# Altium footprint library RM_addition.PcbLib: 124 footprints (part 2 of 8)
Each footprint in its own frame and in the unit in brackets; x right, y up, seen from the top. Pads: shape width x height; smd on the part's side, far side on the other; paste and mask are expansions set on the pad; w line width, h text height; cw(c..) or ccw(c..) is an arc to the next point about the centre after c.
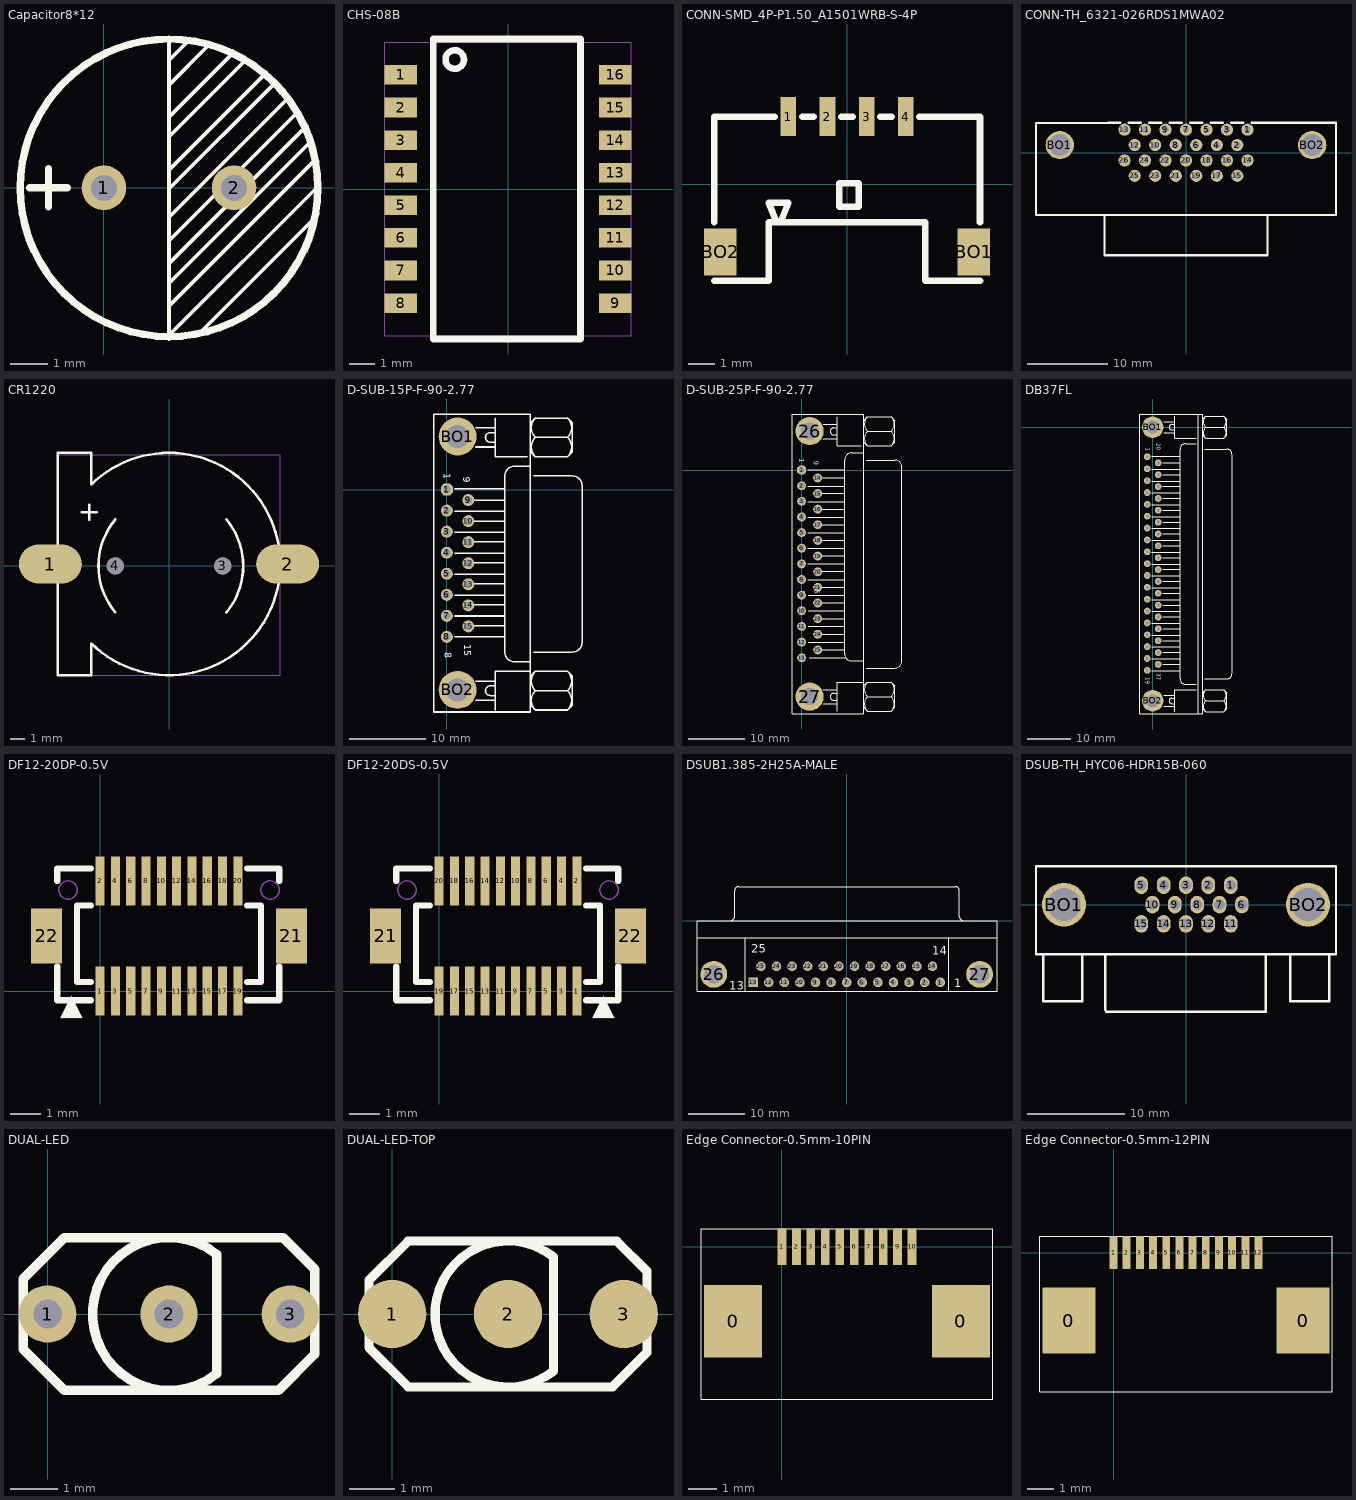
[diagram p1: the footprints below, top view; thin cyan lines are the x and y axes]

## Capacitor8*12 [mm]
pads (2):
  round 1.2 hole 0.7: 1(0,0) 2(3.5,0)
Top Overlay:
  circle w0.2: c1.75,0 r4
  lines w0.1: 1.75,-4.064 1.75,3.937 ; 1.75,-3.175 5.687,0.762 5.715,0.762 ; 1.75,-2.54 1.778,-2.54 5.588,1.27 ; 1.75,-2.032 5.433,1.651 5.461,1.651 ; 1.75,-1.397 1.778,-1.397 5.207,2.032 ; 1.75,-0.889 1.75,-0.79 4.953,2.413 4.925,2.413 ; 1.75,0 1.778,0 4.572,2.794 ; 1.75,0.508 1.778,0.508 4.318,3.048 ; 1.75,0.889 1.75,0.988 ; 1.75,1.397 1.778,1.397 3.81,3.429 ; 1.75,1.905 3.429,3.584 3.429,3.683 ; 1.75,2.794 1.778,2.794 2.794,3.81 ; 1.75,3.048 1.75,3.147 ; 1.75,3.429 2.258,3.937 2.286,3.937 ; 1.778,-3.937 5.733,0.018 ; 2.54,-3.937 5.687,-0.79
  lines w0.2: -1.997,0 -0.981,0 ; -1.489,-0.508 -1.489,0.508

## CHS-08B [mm]
pads (16):
  rect 1.27x0.762 smd mask+0.064: 1(-4.175,4.445) 2(-4.175,3.175) 3(-4.175,1.905) 4(-4.175,0.635) 5(-4.175,-0.635) 6(-4.175,-1.905) 7(-4.175,-3.175) 8(-4.175,-4.445) 9(4.175,-4.445) 10(4.175,-3.175) 11(4.175,-1.905) 12(4.175,-0.635) 13(4.175,0.635) 14(4.175,1.905) 15(4.175,3.175) 16(4.175,4.445)
Top Overlay:
  circle w0.254: c-2.075,5.045 r0.36
  lines w0.254: -2.905,-5.845 -2.905,5.845 2.825,5.845 2.825,-5.845 -2.905,-5.845
Mechanical 20:
  lines w0.025: -4.81,-5.715 -4.81,5.715 4.81,5.715 4.81,-5.715 -4.81,-5.715

## CONN-SMD_4P-P1.50_A1501WRB-S-4P [mm]
pads (6):
  rect 0.6x1.5 smd: 1(-2.249,2.595) 2(-0.749,2.595) 3(0.751,2.595) 4(2.251,2.595)
  rect 1.25x1.8 smd: BO1(4.855,-2.595) BO2(-4.855,-2.595)
Top Overlay:
  lines w0.254: -5.099,-3.704 -2.998,-3.704 -2.998,-1.453 3.001,-1.455 3.001,-1.453 3.001,-3.704 5.101,-3.705 ; -5.099,-1.455 -5.099,2.595 -2.78,2.595 ; -2.699,-1.455 -2.999,-0.705 -2.249,-0.705 -2.549,-1.455 ; -1.718,2.595 -1.28,2.595 ; -0.218,2.595 0.22,2.595 ; 1.282,2.595 1.72,2.595 ; 2.782,2.595 5.102,2.595 5.102,-1.453 ; -0.299,-0.855 -0.299,0.045 0.451,0.045 0.451,-0.855 -0.299,-0.855

## CONN-TH_6321-026RDS1MWA02 [mm]
pads (28):
  round 1.5 hole 0.8: 1(7.62,2.857) 2(6.35,0.953) 3(5.08,2.857) 4(3.81,0.953) 5(2.54,2.857) 6(1.27,0.953) 7(0,2.857) 8(-1.27,0.953) 9(-2.54,2.857) 10(-3.81,0.953) 11(-5.08,2.857) 12(-6.35,0.953) 13(-7.62,2.857) 14(7.62,-0.953) 15(6.35,-2.857) 16(5.08,-0.953) 17(3.81,-2.857) 18(2.54,-0.953) 19(1.27,-2.857) 20(0,-0.953) 21(-1.27,-2.857) 22(-2.54,-0.953) 23(-3.81,-2.857) 24(-5.08,-0.953) 25(-6.35,-2.857) 26(-7.62,-0.953)
  round 3.5 hole 2.7: BO1(-15.63,0.953) BO2(15.63,0.953)
Top Overlay:
  lines w0.254: -10.08,-7.687 -10.08,-12.7 10.08,-12.7 10.08,-7.687 ; -9.681,3.713 -8.099,3.713 ; -8.148,3.683 -18.58,3.683 -18.58,-7.687 18.58,-7.687 18.58,3.713 8.099,3.713 ; -7.141,3.713 -5.559,3.713 ; -7.092,3.683 -5.608,3.683 ; -4.601,3.713 -3.019,3.713 ; -2.061,3.713 -0.479,3.713 ; 0.479,3.713 2.061,3.713 ; 3.019,3.713 4.601,3.713 ; 5.559,3.713 7.141,3.713

## CR1220 [mil]
pads (4):
  oval 169.29x106.3 smd mask+1.97: 1(-320,5) 2(320,5)
  round 46 hole 46 unplated mask+2: 3(145,0) 4(-145,0)
Top Overlay:
  lines w7: -235,145 -195,145 ; -215,125 -215,165 ; -209.62,-209.61 -210,-295 -300,-295 -300,5 -300,305 -210,305 -209.62,219.61 ; -209.52,-209.7 ccw(c0,5) 298.19,-27.92 ; -209.52,219.71 cw(c0,5.01) 0,305 cw(c0,5) 298.19,37.92 ; -145.23,-124.72 cw(c5,0) -145.01,124.99 ; 155.01,-124.99 ccw(c5,0) 155.01,124.98
Mechanical 20:
  lines w1: -300,-295 300,-295 300,300 -300,300 -300,-295

## D-SUB-15P-F-90-2.77 [mm] "90度弯角"
pads (17):
  oct 1.575x1.575 hole 1: 1(0,0)
  round 1.575 hole 1: 2(0,-2.77) 3(0,-5.54) 4(0,-8.31) 5(0,-11.08) 6(0,-13.85) 7(0,-16.62) 8(0,-19.39) 9(2.84,-1.385) 10(2.84,-4.155) 11(2.84,-6.925) 12(2.84,-9.695) 13(2.84,-12.465) 14(2.84,-15.235) 15(2.84,-18.005)
  round 4.995 hole 3.006: BO1(1.42,6.965) BO2(1.42,-26.355)
Top Overlay:
  lines w0.203: 1.058,-19.389 7.408,-19.389 7.62,-19.389 ; 1.058,-16.637 7.408,-16.637 7.62,-16.637 ; 1.058,-13.885 7.408,-13.885 7.62,-13.885 ; 1.058,-11.134 7.408,-11.134 7.62,-11.134 ; 1.058,-8.382 7.408,-8.382 7.62,-8.382 ; 1.058,-5.63 7.408,-5.63 7.62,-5.63 ; 1.058,-2.879 7.408,-2.879 7.62,-2.879 ; 1.058,0.085 7.62,0.085 ; 3.598,-17.907 7.62,-17.907 ; 3.598,-15.155 7.62,-15.155 ; 3.598,-12.404 7.62,-12.404 ; 3.598,-9.652 7.62,-9.652 ; 3.598,-6.9 7.62,-6.9 ; 3.598,-4.149 7.62,-4.149 ; 3.598,-1.397 7.62,-1.397 ; 3.81,-27.732 6.35,-27.732 ; 3.81,-25.192 6.35,-25.192 ; 3.81,5.588 6.35,5.588 ; 3.81,8.128 6.35,8.128 ; 6.35,-29.002 6.35,-23.922 10.922,-23.922 ; 6.35,-27.097 5.715,-27.097 cw(c5.715,-26.462) 5.715,-25.827 6.35,-25.827 ; 6.35,6.223 5.715,6.223 cw(c5.715,6.858) 5.715,7.493 6.35,7.493 ; 6.35,9.398 6.35,4.318 10.541,4.318 ; 10.922,-22.652 8.89,-22.652 cw(c8.89,-21.382) 7.62,-21.382 7.62,1.778 cw(c8.89,1.778) 8.89,3.048 10.922,3.048 ; 11.007,-24.553 11.642,-23.918 15.875,-23.918 ; 11.007,4.957 11.642,4.322 15.875,4.322 16.51,4.957 16.51,8.767 15.875,9.402 11.642,9.402 11.007,8.767 ; 11.009,-28.361 11.644,-28.996 ; 11.43,-21.378 16.51,-21.378 ccw(c16.51,-20.108) 17.78,-20.108 17.78,0.512 ccw(c16.51,0.512) 16.51,1.782 11.43,1.782 ; 11.639,-26.461 cw(c12.912,-25.188) 11.639,-23.916 ; 11.639,4.319 cw(c12.912,5.592) 11.639,6.864 ; 11.639,6.859 cw(c12.912,8.132) 11.639,9.404 ; 11.642,-26.458 15.24,-26.458 ; 11.642,-26.454 ccw(c12.914,-27.726) 11.642,-28.998 15.875,-28.998 ; 11.642,6.862 15.24,6.862 15.875,6.862 ; 15.242,-26.456 15.877,-26.456 ; 15.877,-28.996 16.512,-28.361 16.512,-24.551 15.877,-23.916 cw(c14.605,-25.188) 15.877,-26.461 ; 15.877,4.319 ccw(c14.605,5.592) 15.877,6.864 ; 15.877,6.859 ccw(c14.605,8.132) 15.877,9.404 ; 15.879,-28.998 ccw(c14.607,-27.726) 15.879,-26.454 ; -1.693,-29.265 -1.693,9.875 10.94,9.875 10.94,-29.265 -1.693,-29.265
  text "8" at -0.254,-21.378 h0.91
  text "15" at 2.286,-20.362 h0.91
  text "9" at 2.159,1.651 h0.91
  text "1" at -0.381,2.117 h0.91

## D-SUB-25P-F-90-2.77 [mm] "90度弯角"
pads (27):
  oct 1.575x1.575 hole 1: 1(0,0)
  round 1.575 hole 1: 2(0,-2.77) 3(0,-5.54) 4(0,-8.31) 5(0,-11.08) 6(0,-13.85) 7(0,-16.62) 8(0,-19.39) 9(0,-22.16) 10(0,-24.93) 11(0,-27.7) 12(0,-30.47) 13(0,-33.24) 14(2.84,-1.385) 15(2.84,-4.155) 16(2.84,-6.925) 17(2.84,-9.695) 18(2.84,-12.465) 19(2.84,-15.235) 20(2.84,-18.005) 21(2.84,-20.775) 22(2.84,-23.545) 23(2.84,-26.315) 24(2.84,-29.085) 25(2.84,-31.855)
  round 4.995 hole 3.006: 26(1.42,6.9) 27(1.42,-40.14)
Top Overlay:
  lines w0.203: 1.058,-19.389 7.408,-19.389 7.62,-19.389 ; 1.058,-16.637 7.408,-16.637 7.62,-16.637 ; 1.058,-13.885 7.408,-13.885 7.62,-13.885 ; 1.058,-11.134 7.408,-11.134 7.62,-11.134 ; 1.058,-8.382 7.408,-8.382 7.62,-8.382 ; 1.058,-5.63 7.408,-5.63 7.62,-5.63 ; 1.058,-2.879 7.408,-2.879 7.62,-2.879 ; 1.058,0.085 7.62,0.085 ; 1.164,-30.47 7.514,-30.47 ; 1.164,-27.7 7.514,-27.7 ; 1.164,-24.93 7.514,-24.93 ; 1.164,-22.16 7.514,-22.16 ; 1.394,-33.24 7.744,-33.24 ; 3.598,-31.855 7.62,-31.855 ; 3.598,-29.085 7.62,-29.085 ; 3.598,-26.315 7.62,-26.315 ; 3.598,-23.545 7.62,-23.545 ; 3.598,-20.775 7.62,-20.775 ; 3.598,-17.907 7.62,-17.907 ; 3.598,-15.155 7.62,-15.155 ; 3.598,-12.404 7.62,-12.404 ; 3.598,-9.652 7.62,-9.652 ; 3.598,-6.9 7.62,-6.9 ; 3.598,-4.149 7.62,-4.149 ; 3.598,-1.397 7.62,-1.397 ; 3.81,-41.416 6.35,-41.416 ; 3.81,-38.876 6.35,-38.876 ; 3.81,5.588 6.35,5.588 ; 3.81,8.128 6.35,8.128 ; 6.35,-42.686 6.35,-37.606 10.922,-37.606 ; 6.35,-40.781 5.715,-40.781 cw(c5.715,-40.146) 5.715,-39.511 6.35,-39.511 ; 6.35,6.223 5.715,6.223 cw(c5.715,6.858) 5.715,7.493 6.35,7.493 ; 6.35,9.398 6.35,4.318 10.541,4.318 ; 7.62,-32.5 7.62,1.778 cw(c8.89,1.778) 8.89,3.048 10.922,3.048 ; 7.633,-32.53 ccw(c8.903,-32.53) 8.903,-33.8 10.935,-33.8 ; 11.007,-38.237 11.642,-37.602 15.875,-37.602 ; 11.007,4.957 11.642,4.322 15.875,4.322 16.51,4.957 16.51,8.767 15.875,9.402 11.642,9.402 11.007,8.767 ; 11.009,-42.045 11.644,-42.68 ; 11.43,-35.067 16.51,-35.067 ccw(c16.51,-33.797) 17.78,-33.797 ; 11.43,1.782 16.51,1.782 cw(c16.51,0.512) 17.78,0.512 17.78,-33.8 ; 11.639,-40.144 cw(c12.912,-38.872) 11.639,-37.6 ; 11.639,4.319 cw(c12.912,5.592) 11.639,6.864 ; 11.639,6.859 cw(c12.912,8.132) 11.639,9.404 ; 11.642,-40.142 15.24,-40.142 ; 11.642,-40.138 ccw(c12.914,-41.41) 11.642,-42.682 15.875,-42.682 ; 11.642,6.862 15.24,6.862 15.875,6.862 ; 15.242,-40.14 15.877,-40.14 ; 15.877,-42.68 16.512,-42.045 16.512,-38.235 15.877,-37.6 cw(c14.605,-38.872) 15.877,-40.144 ; 15.877,4.319 ccw(c14.605,5.592) 15.877,6.864 ; 15.877,6.859 ccw(c14.605,8.132) 15.877,9.404 ; 15.879,-42.682 ccw(c14.607,-41.41) 15.879,-40.138 ; -1.7,-43.14 10.933,-43.14 10.933,9.9 -1.7,9.9 -1.7,-43.14
  text "1" at -0.381,2.117 h0.91
  text "9" at 2.159,1.651 h0.91
  text "15" at 2.286,-20.362 h0.91
  text "8" at -0.254,-21.378 h0.91

## DB37FL [mil] "90度弯角"
pads (39):
  oct 62x62 hole 35: 1(-50,-270)
  round 62 hole 35: 2(-50,-380) 3(-50,-488.33) 4(-50,-596.67) 5(-50,-705) 6(-50,-813.33) 7(-50,-921.67) 8(-50,-1030) 9(-50,-1138.33) 10(-50,-1246.67) 11(-50,-1355) 12(-50,-1463.33) 13(-50,-1571.67) 14(-50,-1680) 15(-50,-1788.33) 16(-50,-1896.67) 17(-50,-2005) 18(-50,-2113.33) 19(-50,-2221.67) 20(50,-325.83) 21(50,-434.17) 22(50,-542.5) 23(50,-650.83) 24(50,-759.17) 25(50,-867.5) 26(50,-975.83) 27(50,-1084.17) 28(50,-1192.5) 29(50,-1300.83) 30(50,-1409.17) 31(50,-1517.5) 32(50,-1625.83) 33(50,-1734.17) 34(50,-1842.5) 35(50,-1950.83) 36(50,-2059.17) 37(50,-2167.5)
  round 196.67 hole 118.33: BO1(0,0) BO2(0,-2500)
Top Overlay:
  lines w8: -8.33,-2225 241.67,-2225 250,-2225 ; -8.33,-2116.67 241.67,-2116.67 250,-2116.67 ; -8.33,-2008.33 241.67,-2008.33 250,-2008.33 ; -8.33,-1900 241.67,-1900 250,-1900 ; -8.33,-1791.67 241.67,-1791.67 250,-1791.67 ; -8.33,-1683.33 241.67,-1683.33 250,-1683.33 ; -8.33,-1575 241.67,-1575 250,-1575 ; -8.33,-1466.67 241.67,-1466.67 250,-1466.67 ; -8.33,-1358.33 250,-1358.33 ; -8.33,-1250 250,-1250 ; -8.33,-1141.67 241.67,-1141.67 250,-1141.67 ; -8.33,-1033.33 241.67,-1033.33 250,-1033.33 ; -8.33,-925 241.67,-925 250,-925 ; -8.33,-816.67 241.67,-816.67 250,-816.67 ; -8.33,-708.33 241.67,-708.33 250,-708.33 ; -8.33,-600 241.67,-600 250,-600 ; -8.33,-491.67 241.67,-491.67 250,-491.67 ; -8.33,-383.33 241.67,-383.33 250,-383.33 ; -8.33,-266.67 250,-266.67 ; 91.67,-2166.67 250,-2166.67 ; 91.67,-2058.33 250,-2058.33 ; 91.67,-1950 250,-1950 ; 91.67,-1841.67 250,-1841.67 ; 91.67,-1733.33 250,-1733.33 ; 91.67,-1625 250,-1625 ; 91.67,-1516.67 250,-1516.67 ; 91.67,-1408.33 250,-1408.33 ; 91.67,-1300 250,-1300 ; 91.67,-1191.67 250,-1191.67 ; 91.67,-1083.33 250,-1083.33 ; 91.67,-975 250,-975 ; 91.67,-866.67 250,-866.67 ; 91.67,-758.33 250,-758.33 ; 91.67,-650 250,-650 ; 91.67,-541.67 250,-541.67 ; 91.67,-433.33 250,-433.33 ; 91.67,-325 250,-325 ; 100,-2550 200,-2550 ; 100,-2450 200,-2450 ; 100,-50 200,-50 ; 100,50 200,50 ; 200,-2600 200,-2400 400,-2400 ; 200,-2525 175,-2525 cw(c175,-2500) 175,-2475 200,-2475 ; 200,-25 175,-25 cw(c175,0) 175,25 200,25 ; 200,100 200,-100 400,-100 ; 400,-2350 300,-2350 cw(c300,-2300) 250,-2300 250,-200 cw(c300,-200) 300,-150 400,-150 ; 416.67,-2616.67 416.67,116.67 ; 458.33,-2575 483.33,-2600 650,-2600 675,-2575 675,-2425 650,-2400 483.33,-2400 458.33,-2425 ; 458.33,-75 483.33,-100 650,-100 675,-75 675,75 650,100 483.33,100 458.33,75 ; 475,-2300 675,-2300 ccw(c675,-2250) 725,-2250 725,-250 ccw(c675,-250) 675,-200 475,-200 ; 483.25,-2600.09 cw(c533.33,-2550) 483.25,-2499.91 ; 483.25,-2500.09 cw(c533.33,-2450) 483.25,-2399.91 ; 483.25,-100.09 cw(c533.33,-50) 483.25,0.09 ; 483.25,-0.09 cw(c533.33,50) 483.25,100.09 ; 483.33,-2500 625,-2500 650,-2500 ; 483.33,0 625,0 650,0 ; 650.09,-2600.09 ccw(c600,-2550) 650.09,-2499.91 ; 650.09,-2500.09 ccw(c600,-2450) 650.09,-2399.91 ; 650.09,-100.09 ccw(c600,-50) 650.09,0.09 ; 650.09,-0.09 ccw(c600,50) 650.09,100.09 ; -116.67,-2616.67 -116.67,116.67 458.33,116.67 458.33,-2616.67 -116.67,-2616.67
  text "19" at -65,-2286.67 h36
  text "37" at 35,-2246.67 h36
  text "20" at 35,-146.67 h36
  text "1" at -65,-186.67 h36

## DF12-20DP-0.5V [mm] "HRS BTB DF12-20DP-0.5V"
height 5.2
pads (22):
  rect 0.3x1.6 smd mask+0.051: 1(0,0) 2(0,3.6) 3(0.5,0) 4(0.5,3.6) 5(1,0) 6(1,3.6) 7(1.5,0) 8(1.5,3.6) 9(2,0) 10(2,3.6) 11(2.5,0) 12(2.5,3.6) 13(3,0) 14(3,3.6) 15(3.5,0) 16(3.5,3.6) 17(4,0) 18(4,3.6) 19(4.5,0) 20(4.5,3.6)
  rect 1x1.8 smd mask+0.051: 21(6.25,1.8) 22(-1.75,1.8)
Top Overlay:
  lines w0.2: -1.4,0.8 -1.4,-0.3 -0.3,-0.3 ; -1.4,3.6 -1.4,4 -0.3,4 ; -0.3,0.3 -0.75,0.3 -0.75,2.8 -0.3,2.8 ; 4.8,-0.3 5.85,-0.3 5.85,0.8 ; 4.8,0.3 5.25,0.3 5.25,2.8 4.8,2.8 ; 4.8,4 5.85,4 5.85,3.6
  text "▲" at -1.299,-1 h1.2
Mechanical 1:
  circle w0.05: c-1.05,3.3 r0.3
  circle w0.05: c5.55,3.3 r0.3

## DF12-20DS-0.5V [mm] "HRS BTB DF12-20DS-0.5V"
height 5.2
pads (22):
  rect 0.3x1.6 smd mask+0.051: 1(4.5,0) 2(4.5,3.6) 3(4,0) 4(4,3.6) 5(3.5,0) 6(3.5,3.6) 7(3,0) 8(3,3.6) 9(2.5,0) 10(2.5,3.6) 11(2,0) 12(2,3.6) 13(1.5,0) 14(1.5,3.6) 15(1,0) 16(1,3.6) 17(0.5,0) 18(0.5,3.6) 19(0,0) 20(0,3.6)
  rect 1x1.8 smd mask+0.051: 21(-1.75,1.8) 22(6.25,1.8)
Top Overlay:
  lines w0.2: -1.4,0.8 -1.4,-0.3 -0.3,-0.3 ; -1.4,3.6 -1.4,4 -0.3,4 ; -0.3,0.3 -0.75,0.3 -0.75,2.8 -0.3,2.8 ; 4.8,-0.3 5.85,-0.3 5.85,0.8 ; 4.8,0.3 5.25,0.3 5.25,2.8 4.8,2.8 ; 4.8,4 5.85,4 5.85,3.6
  text "▲" at 5.001,-1 h1.2
Mechanical 1:
  circle w0.05: c-1.05,3.3 r0.3
  circle w0.05: c5.55,3.3 r0.3

## DSUB1.385-2H25A-MALE [mm] "Connector; D Subminiature; 25 Position; Right Angle; Pitch 1.385 mm"
height 12.93
pads (27):
  round 1.69 hole 1.09: 1(16.566,-10.92) 2(13.805,-10.92) 3(11.044,-10.92) 4(8.283,-10.92) 5(5.522,-10.92) 6(2.761,-10.92) 7(0,-10.92) 8(-2.761,-10.92) 9(-5.522,-10.92) 10(-8.283,-10.92) 11(-11.044,-10.92) 12(-13.805,-10.92) 14(15.186,-8.08) 15(12.425,-8.08) 16(9.664,-8.08) 17(6.903,-8.08) 18(4.142,-8.08) 19(1.381,-8.08) 20(-1.38,-8.08) 21(-4.141,-8.08) 22(-6.902,-8.08) 23(-9.663,-8.08) 24(-12.424,-8.08) 25(-15.185,-8.08)
  rect 1.69x1.69 hole 1.09: 13(-16.566,-10.92)
  round 4.76 hole 3.26: 26(-23.526,-9.5) 27(23.526,-9.5)
Top Overlay:
  lines w0.2: -26.496,-3 26.604,-3 ; -20.541,0.005 ccw(c-20.541,0.7) -19.846,0.7 -19.846,5.3 ; -19.841,5.305 cw(c-19.146,5.305) -19.146,6 19.254,6 cw(c19.254,5.305) 19.949,5.305 ; -17.946,-12.5 -17.946,-3 ; 18.054,-12.5 18.054,-3 ; 19.954,5.3 19.954,0.7 ccw(c20.649,0.7) 20.649,0.005 ; -26.496,-12.5 26.604,-12.5 26.604,0 -26.496,0 -26.496,-12.5
  text "1" at 19,-11.8 h1.5
  text "13" at -20.8,-12.2 h1.5
  text "14" at 15.186,-6 h1.5
  text "25" at -16.9,-5.7 h1.5

## DSUB-TH_HYC06-HDR15B-060 [mm] "HDR3.08 母座直锁式"
pads (17):
  oval 1.4x1.8 hole 1.1: 1(4.58,1.98) 2(2.29,1.98) 3(0,1.98) 4(-2.29,1.98) 5(-4.58,1.98) 6(5.725,0) 7(3.435,0) 8(1.145,0) 9(-1.145,0) 10(-3.435,0) 11(4.58,-1.98) 12(2.29,-1.98) 13(0,-1.98) 14(-2.29,-1.98) 15(-4.58,-1.98)
  round 4.5 hole 3.4: BO1(-12.5,0) BO2(12.5,0)
Top Overlay:
  lines w0.254: -14.605,-5.08 -14.605,-9.906 -10.605,-9.906 -10.605,-5.08 ; -8.255,-10.795 -8.255,-5.08 ; -8.175,-10.98 8.175,-10.98 8.175,-5.08 ; 10.66,-9.906 14.66,-9.906 14.66,-5.08 ; 10.668,-9.906 10.668,-5.08 ; -15.367,-5.08 -15.367,3.937 15.367,3.937 15.367,-5.08 -15.367,-5.08

## DUAL-LED [mm]
pads (3):
  round 1.2 hole 0.6: 1(0,0) 2(2.54,0) 3(5.08,0)
Top Overlay:
  lines w0.2: -0.508,-0.741 -0.508,0.741 0.351,1.6 4.928,1.6 5.588,0.94 5.588,-0.843 4.831,-1.6 0.351,-1.6 -0.508,-0.741 ; 3.54,-1.249 cw(c2.54,0) 3.54,1.249 3.54,-1.249

## DUAL-LED-TOP [mm]
pads (3):
  round 1.5 smd: 1(0,0) 2(2.54,0) 3(5.08,0)
Top Overlay:
  lines w0.2: -0.508,-0.741 0.351,-1.6 4.831,-1.6 5.588,-0.843 5.588,0.94 4.928,1.6 0.351,1.6 -0.508,0.741 -0.508,-0.741 ; 3.54,-1.249 cw(c2.54,0) 3.54,1.249 3.54,-1.249

## Edge Connector-0.5mm-10PIN [mm]
pads (12):
  rect 2x2.5 smd: 0(-1.69,-2.575) 0(6.19,-2.575)
  rect 0.3x1.25 smd: 1(0,0) 2(0.5,0) 3(1,0) 4(1.5,0) 5(2,0) 6(2.5,0) 7(3,0) 8(3.5,0) 9(4,0) 10(4.5,0)
Top Overlay:
  lines w0.013: -2.794,-5.275 7.3,-5.275 7.3,0.625 -2.159,0.625 -2.794,0.625 -2.794,-5.275

## Edge Connector-0.5mm-12PIN [mm]
pads (14):
  rect 2x2.5 smd: 0(-1.69,-2.575) 0(7.19,-2.575)
  rect 0.3x1.25 smd: 1(0,0) 2(0.5,0) 3(1,0) 4(1.5,0) 5(2,0) 6(2.5,0) 7(3,0) 8(3.5,0) 9(4,0) 10(4.5,0) 11(5,0) 12(5.5,0)
Top Overlay:
  lines w0.013: -2.794,-5.275 8.3,-5.275 8.3,0.625 -2.159,0.625 -2.794,0.625 -2.794,-5.275